# EAGLE library part HDR_10X2_CJTAG_0_HEADER10X2_SMD (library BeagleBone_Black_egl)
HDR_10X2_CJTAG_0_HEADER10X2_SMD
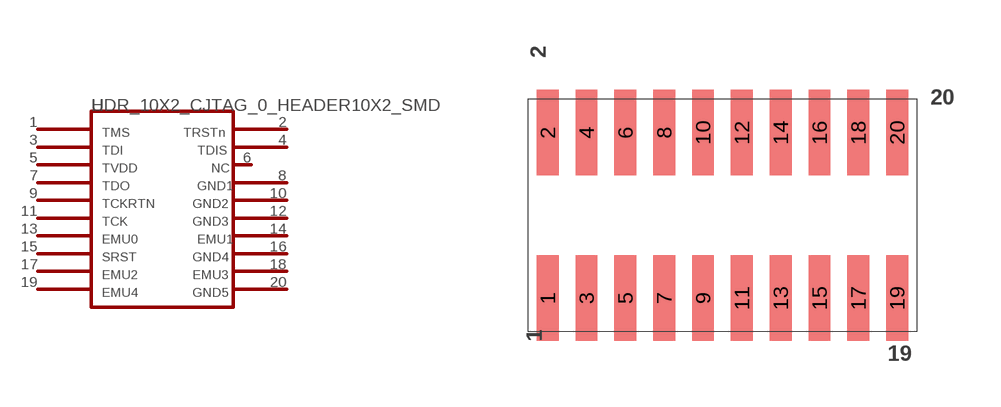
[diagram p4: symbol with the pads of HEADER10X2_SMD; footprint HEADER10X2_SMD]

Designator prefix -

## HDR_10X2_CJTAG_0_HEADER10X2_SMD  [HEADER10X2_SMD]
1  1
2  11
3  2
4  12
5  3
6  13
7  4
8  14
9  5
10  15
11  6
12  16
13  7
14  17
15  8
16  18
17  9
18  19
19  10
20  20

## Footprint HEADER10X2_SMD (pad centres in mm)
smd 0.711 x 2.794: 1 -5.715,-2.705; 2 -5.715,2.705; 3 -4.445,-2.705; 4 -4.445,2.705; 5 -3.175,-2.705; 6 -3.175,2.705; 7 -1.905,-2.705; 8 -1.905,2.705; 9 -0.635,-2.705; 10 -0.635,2.705; 11 0.635,-2.705; 12 0.635,2.705; 13 1.905,-2.705; 14 1.905,2.705; 15 3.175,-2.705; 16 3.175,2.705; 17 4.445,-2.705; 18 4.445,2.705; 19 5.715,-2.705; 20 5.715,2.705